# EAGLE library part 7810-8P8C (library 7810-8P8C)
Modular Jack, side entry, shielded Source: Datasheet <http://akizukidenshi.com/download/ds/neltron/7810-XPXC_20180312.pdf>
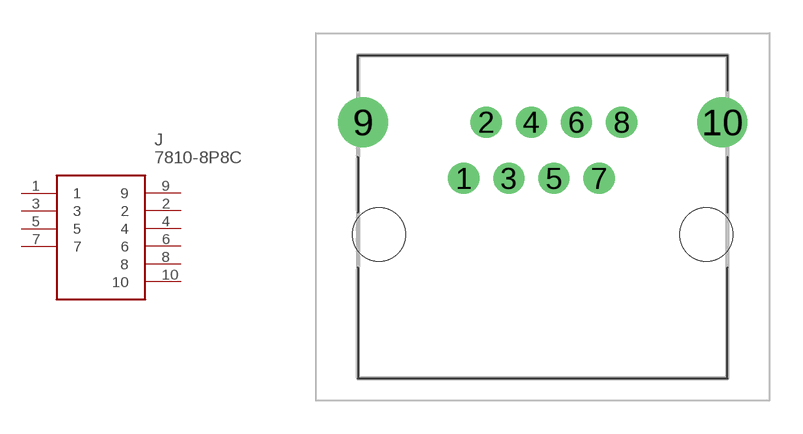
[diagram p0: symbol with the pads of 78108P8C; footprint 78108P8C]

Designator prefix J

## 7810-8P8C (Description: Modular Jack, side entry, shielded; Height: 14.75mm; Manufacturer_Name: NELTRON; Manufacturer_Part_Number: 7810-8P8C)  [78108P8C]
1  1
2  2
3  3
4  4
5  5
6  6
7  7
8  8
9  9
10  10

## Footprint 78108P8C (pad centres in mm)
7810-8P8C-1
drill 0.9 pad 1.4: 1 0,0; 2 1.02,2.54; 3 2.04,0; 4 3.06,2.54; 5 4.08,0; 6 5.1,2.54; 7 6.12,0; 8 7.14,2.54
drill 1.5 pad 2.25: 9 -4.555,2.54; 10 11.695,2.54
hole 2.4 at -3.83,-2.54
hole 2.4 at 10.97,-2.54